# Altium integrated library TI Power Management DC-DC Controller (External Switch).IntLib: 349 symbols (part 24 of 28)
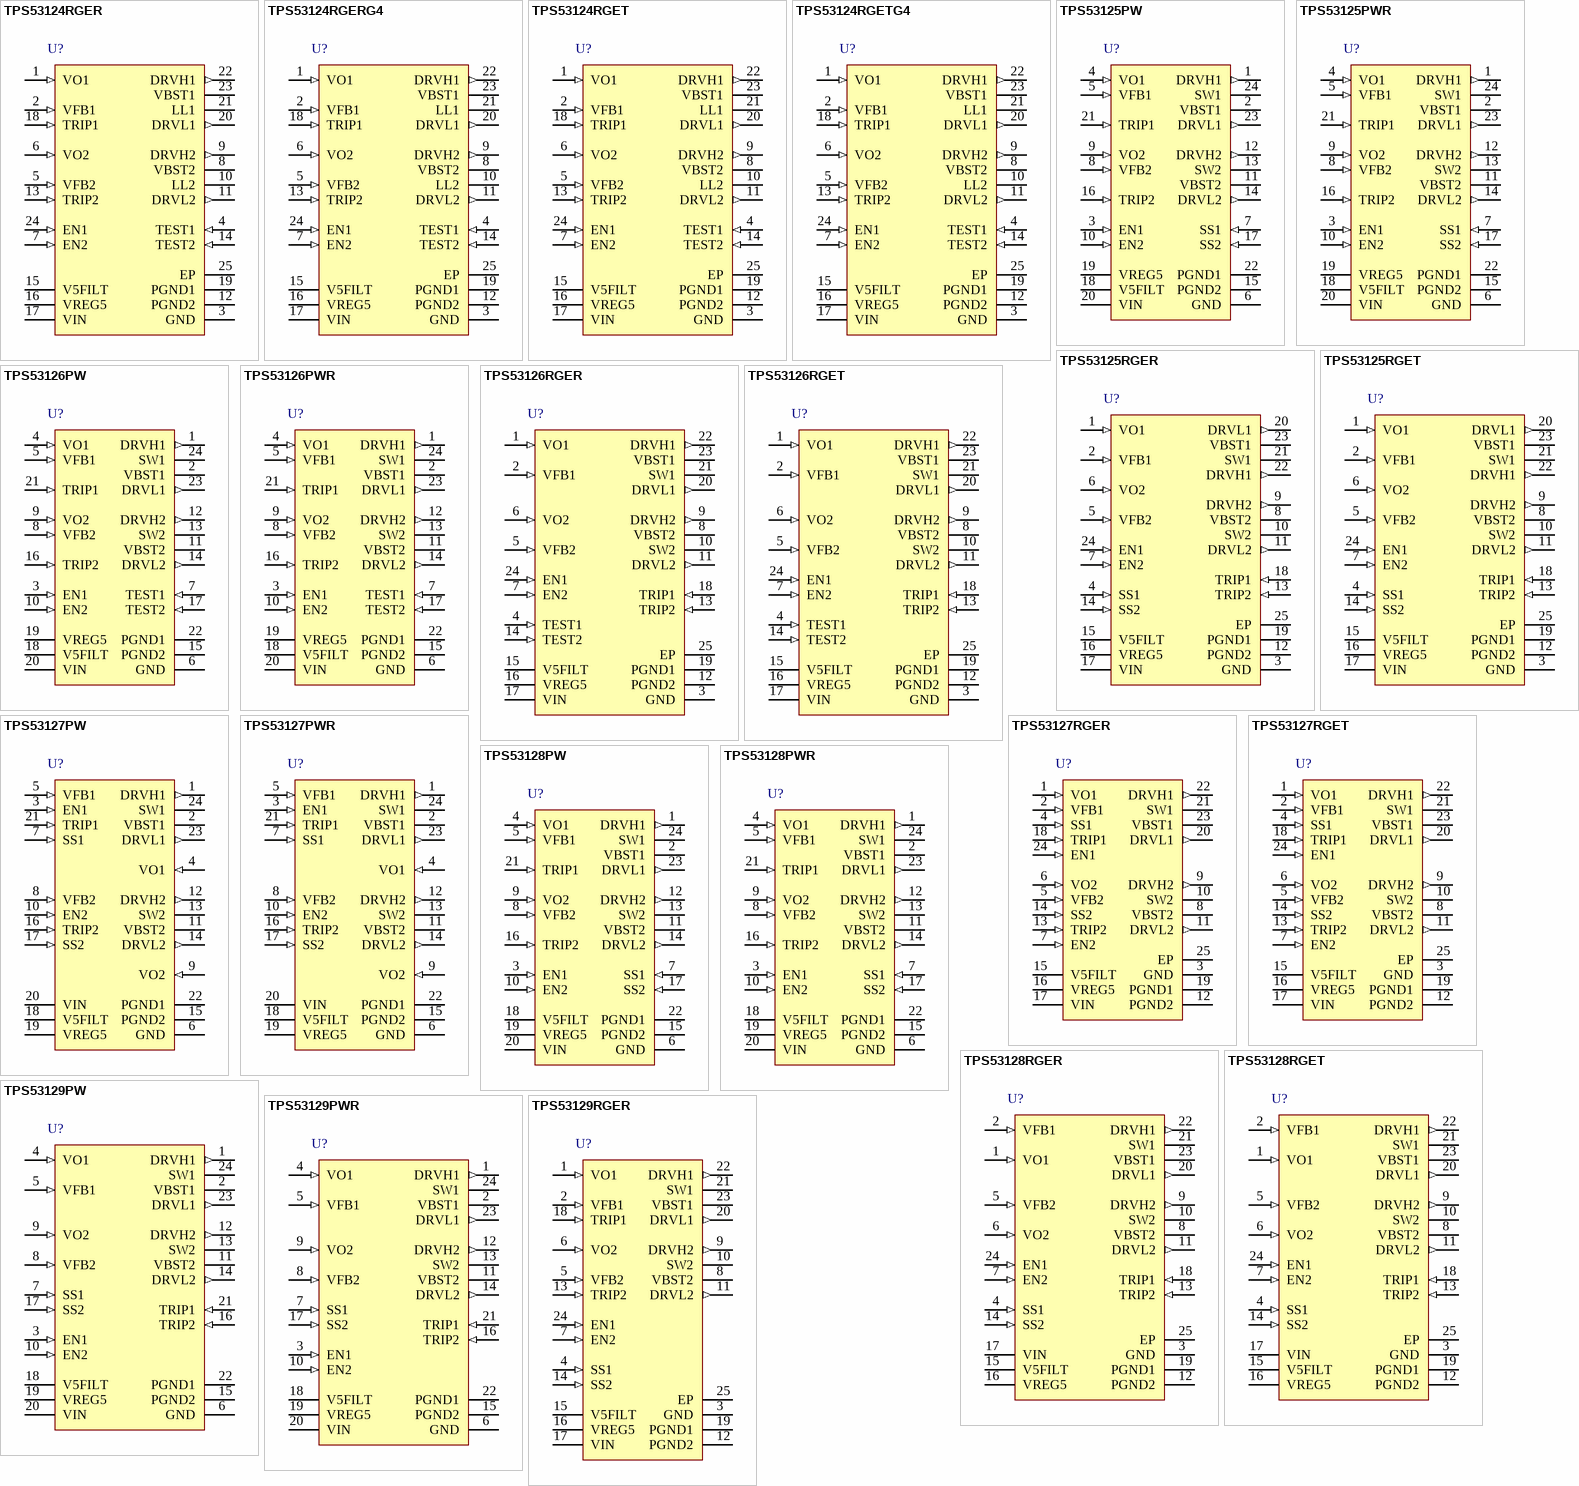
[diagram p37: symbols TPS53124RGER to TPS53129RGER]

## TPS53126PW
designator U?
Dual Synchronous Step-Down Controller for Low Voltage Power Rails, 350 kHz or 700 kHz Frequency, 89 % Duty Cycle, 4.5 to 24 V, -40 to 85 degC, 24-pin TSSOP (PW), Green (RoHS & no Sb/Br); Manufacturer: Texas Instruments; PartNumber: TPS53126PW; Duty Cycle(Max)(%): 89; Iout(Max)(A): 15; Regulated Outputs(#): 2; SubFamily: Multiple-Output Switching Controller; Switching Frequency(Max)(kHz): 350; Synchronous Rectification: TRUE; Topology: Buck, D-CAP 2 Mode"; Vin(Max)(V): 24; Vin(Min)(V): 4.5; Vout(Max)(V): 5.5; Vout(Min)(V): 0.76; DatasheetVersion: SLUS909; PackageVersion: revG, Feb-2011; PackageReference: PW24; PackageDescription: 24-Pin Thin Small Outline Package 0.65 mm Pitch; Supplier 1: Digi-Key; Supplier Part Number 1: TPS53126PW-ND; Supplier 2: Farnell; Supplier Part Number 2: 1735589; Supplier 3: Newark; Supplier Part Number 3: 11R8097; Supplier 4: Mouser; Supplier Part Number 4: 595-TPS53126PW; Eco-Plan: Green (RoHS & no Sb/Br); Iout2(A): 15; Vout2(Max)(V): 5.5; Vout2(Min)(V): 0.76; Mounting Technology: Surface Mount; Code_JEDEC: MO-153; ComponentLink1Description: Datasheet; ComponentLink1URL: http://www.ti.com/general/docs/lit/getliterature.tsp?genericPartNumber=TPS53126&fileType=pdf; ComponentLink2Description: Package Specification; ComponentLink2URL: http://www.ti.com/litv/pdf/mpds177g
footprint PW24_N (TSOP, 24-Leads, Body 7.8x4.4mm, Pitch 0.65mm, IPC Medium Density)
footprint PW24_L (TSOP, 24-Leads, Body 7.8x4.4mm, Pitch 0.65mm, IPC High Density)
footprint PW24_M (TSOP, 24-Leads, Body 7.8x4.4mm, Pitch 0.65mm, IPC Low Density)
pins: 1 DRVH1 (out) "High-side MOSFET gate driver outputs. SWx referenced drivers switch between SWx (OFF) and VBSTx (ON).", 2 VBST1 (power) "Supply input for high-side NFET driver (Boost Terminal). Bypass to SWx with a high-quality 0.1uF ceramic capacitor. An external schottky diode can be added if forward drop is critical to drive the high-side FET.", 3 EN1 (in) "Channel 1 and channel 2 high level enable pins.", 4 VO1 (in) "Output voltage inputs for on-time adjustment and output discharge. Connect directly to the output voltage.", 5 VFB1 (in) "D-CAP2 feedback inputs. Connect to output voltage with resistor divider.", 6 GND (power) "Signal ground pin. Connect to PGND1, PGND2 and system ground at a single point.", 7 TEST1 (in) "Test interface pin, not used during application. Connect directly to GND.", 8 VFB2 (in) "D-CAP2 feedback inputs. Connect to output voltage with resistor divider.", 9 VO2 (in) "Output voltage inputs for on-time adjustment and output discharge. Connect directly to the output voltage.", 10 EN2 (in) "Channel 1 and channel 2 high level enable pins.", 11 VBST2 (power) "Supply input for high-side NFET driver (Boost Terminal). Bypass to SWx with a high-quality 0.1uF ceramic capacitor. An external schottky diode can be added if forward drop is critical to drive the high-side FET.", 12 DRVH2 (out) "High-side MOSFET gate driver outputs. SWx referenced drivers switch between SWx (OFF) and VBSTx (ON).", 13 SW2 (power) "Switch node connections for both the high-side drivers and the current comparators.", 14 DRVL2 (out) "Low-side MOSFET gate driver outputs. PGND referenced drivers switch between PGNDx (OFF) and VREG5 (ON).", 15 PGND2 (power) "Power ground connections for both the low-side drivers and the current comparators. Connect PGND1, PGND2 and GND strongly together near the IC.", 16 TRIP2 (in) "Over current trip point programming pin. Connect to GND with a resistor to GND to set threshold for low-side RDS(on) current limit.", 17 TEST2 (in) "Frequency select pin. Connect to GND for 350kHz switching. Connect to V5FILT for 700kHz switching.", 18 V5FILT (power) "5V supply input for the entire control circuit except the MOSFET drivers. Bypass to GND with a minimum 1.0uF, high-quality ceramic capacitor. V5FILT is connected to VREG5 via an internal 10ohm resistor.", 19 VREG5 (power) "Output of 5V linear regulator and supply for MOSFET drivers. Bypass to GND with a minimum 4.7uF high-quality ceramic capacitor. VREG5 is connected to V5FILT via an internal 10ohm resistor.", 20 VIN (power) "Supply Input for 5V linear regulator.", 21 TRIP1 (in) "Over current trip point programming pin. Connect to GND with a resistor to GND to set threshold for low-side RDS(on) current limit.", 22 PGND1 (power) "Power ground connections for both the low-side drivers and the current comparators. Connect PGND1, PGND2 and GND strongly together near the IC.", 23 DRVL1 (out) "Low-side MOSFET gate driver outputs. PGND referenced drivers switch between PGNDx (OFF) and VREG5 (ON).", 24 SW1 (power) "Switch node connections for both the high-side drivers and the current comparators."

## TPS53126PWR
designator U?
Dual Synchronous Step-Down Controller for Low Voltage Power Rails, 350 kHz or 700 kHz Frequency, 89 % Duty Cycle, 4.5 to 24 V, -40 to 85 degC, 24-pin TSSOP (PW), Green (RoHS & no Sb/Br); Manufacturer: Texas Instruments; PartNumber: TPS53126PWR; Duty Cycle(Max)(%): 89; Iout(Max)(A): 15; Regulated Outputs(#): 2; SubFamily: Multiple-Output Switching Controller; Switching Frequency(Max)(kHz): 350; Synchronous Rectification: TRUE; Topology: Buck, D-CAP 2 Mode"; Vin(Max)(V): 24; Vin(Min)(V): 4.5; Vout(Max)(V): 5.5; Vout(Min)(V): 0.76; DatasheetVersion: SLUS909; PackageVersion: revG, Feb-2011; PackageReference: PW24; PackageDescription: 24-Pin Thin Small Outline Package 0.65 mm Pitch; Supplier 1: Digi-Key; Supplier Part Number 1: 296-24555-2-ND; Supplier 2: Digi-Key; Supplier Part Number 2: 296-24555-1-ND; Supplier 3: Digi-Key; Supplier Part Number 3: 296-24555-6-ND; Supplier 4: Mouser; Supplier Part Number 4: 595-TPS53126PWR; Eco-Plan: Green (RoHS & no Sb/Br); Iout2(A): 15; Vout2(Max)(V): 5.5; Vout2(Min)(V): 0.76; Mounting Technology: Surface Mount; Code_JEDEC: MO-153; ComponentLink1Description: Datasheet; ComponentLink1URL: http://www.ti.com/general/docs/lit/getliterature.tsp?genericPartNumber=TPS53126&fileType=pdf; ComponentLink2Description: Package Specification; ComponentLink2URL: http://www.ti.com/litv/pdf/mpds177g
footprint PW24_N (TSOP, 24-Leads, Body 7.8x4.4mm, Pitch 0.65mm, IPC Medium Density)
footprint PW24_L (TSOP, 24-Leads, Body 7.8x4.4mm, Pitch 0.65mm, IPC High Density)
footprint PW24_M (TSOP, 24-Leads, Body 7.8x4.4mm, Pitch 0.65mm, IPC Low Density)
pins: 1 DRVH1 (out) "High-side MOSFET gate driver outputs. SWx referenced drivers switch between SWx (OFF) and VBSTx (ON).", 2 VBST1 (power) "Supply input for high-side NFET driver (Boost Terminal). Bypass to SWx with a high-quality 0.1uF ceramic capacitor. An external schottky diode can be added if forward drop is critical to drive the high-side FET.", 3 EN1 (in) "Channel 1 and channel 2 high level enable pins.", 4 VO1 (in) "Output voltage inputs for on-time adjustment and output discharge. Connect directly to the output voltage.", 5 VFB1 (in) "D-CAP2 feedback inputs. Connect to output voltage with resistor divider.", 6 GND (power) "Signal ground pin. Connect to PGND1, PGND2 and system ground at a single point.", 7 TEST1 (in) "Test interface pin, not used during application. Connect directly to GND.", 8 VFB2 (in) "D-CAP2 feedback inputs. Connect to output voltage with resistor divider.", 9 VO2 (in) "Output voltage inputs for on-time adjustment and output discharge. Connect directly to the output voltage.", 10 EN2 (in) "Channel 1 and channel 2 high level enable pins.", 11 VBST2 (power) "Supply input for high-side NFET driver (Boost Terminal). Bypass to SWx with a high-quality 0.1uF ceramic capacitor. An external schottky diode can be added if forward drop is critical to drive the high-side FET.", 12 DRVH2 (out) "High-side MOSFET gate driver outputs. SWx referenced drivers switch between SWx (OFF) and VBSTx (ON).", 13 SW2 (power) "Switch node connections for both the high-side drivers and the current comparators.", 14 DRVL2 (out) "Low-side MOSFET gate driver outputs. PGND referenced drivers switch between PGNDx (OFF) and VREG5 (ON).", 15 PGND2 (power) "Power ground connections for both the low-side drivers and the current comparators. Connect PGND1, PGND2 and GND strongly together near the IC.", 16 TRIP2 (in) "Over current trip point programming pin. Connect to GND with a resistor to GND to set threshold for low-side RDS(on) current limit.", 17 TEST2 (in) "Frequency select pin. Connect to GND for 350kHz switching. Connect to V5FILT for 700kHz switching.", 18 V5FILT (power) "5V supply input for the entire control circuit except the MOSFET drivers. Bypass to GND with a minimum 1.0uF, high-quality ceramic capacitor. V5FILT is connected to VREG5 via an internal 10ohm resistor.", 19 VREG5 (power) "Output of 5V linear regulator and supply for MOSFET drivers. Bypass to GND with a minimum 4.7uF high-quality ceramic capacitor. VREG5 is connected to V5FILT via an internal 10ohm resistor.", 20 VIN (power) "Supply Input for 5V linear regulator.", 21 TRIP1 (in) "Over current trip point programming pin. Connect to GND with a resistor to GND to set threshold for low-side RDS(on) current limit.", 22 PGND1 (power) "Power ground connections for both the low-side drivers and the current comparators. Connect PGND1, PGND2 and GND strongly together near the IC.", 23 DRVL1 (out) "Low-side MOSFET gate driver outputs. PGND referenced drivers switch between PGNDx (OFF) and VREG5 (ON).", 24 SW1 (power) "Switch node connections for both the high-side drivers and the current comparators."

## TPS53126RGER
designator U?
Dual Synchronous Step-Down Controller for Low Voltage Power Rails, 350 kHz or 700 kHz Frequency, 89 % Duty Cycle, 4.5 to 24 V, -40 to 85 degC, 24-pin VQFN (RGE), Green (RoHS & no Sb/Br); Manufacturer: Texas Instruments; PartNumber: TPS53126RGER; Duty Cycle(Max)(%): 89; Iout(Max)(A): 15; Regulated Outputs(#): 2; SubFamily: Multiple-Output Switching Controller; Switching Frequency(Max)(kHz): 350; Synchronous Rectification: TRUE; Topology: Buck, D-CAP 2 Mode"; Vin(Max)(V): 24; Vin(Min)(V): 4.5; Vout(Max)(V): 5.5; Vout(Min)(V): 0.76; DatasheetVersion: SLUS909; PackageVersion: revG, Jul-2011; PackageReference: RGE24-2450X2450TP; PackageDescription: 24-Pin Plastic Quad Flatpack No-Lead, 4 x 4 mm Body, 0.5 mm Pitch; Supplier 1: Digi-Key; Supplier Part Number 1: 296-24556-2-ND; Supplier 2: Digi-Key; Supplier Part Number 2: 296-24556-1-ND; Supplier 3: Digi-Key; Supplier Part Number 3: 296-24556-6-ND; Supplier 4: Newark; Supplier Part Number 4: 25R0101; Supplier 5: Mouser; Supplier Part Number 5: 595-TPS53126RGER; Eco-Plan: Green (RoHS & no Sb/Br); Iout2(A): 15; Vout2(Max)(V): 5.5; Vout2(Min)(V): 0.76; Mounting Technology: Surface Mount; Code_JEDEC: MO-220; ComponentLink1Description: Datasheet; ComponentLink1URL: http://www.ti.com/general/docs/lit/getliterature.tsp?genericPartNumber=TPS53126&fileType=pdf; ComponentLink2Description: Package Specification; ComponentLink2URL: http://www.ti.com/litv/pdf/mpqf124f
footprint RGE24-2450X2450TP (QFN, 24-Leads, Body 4x4mm, Pitch 0.5mm, Thermal Pad 2.45x2.45mm, TI Recommended)
pins: 1 VO1 (in) "Output voltage inputs for on-time adjustment and output discharge. Connect directly to the output voltage.", 2 VFB1 (in) "D-CAP2 feedback inputs. Connect to output voltage with resistor divider.", 3 GND (power) "Signal ground pin. Connect to PGND1, PGND2 and system ground at a single point.", 4 TEST1 (in) "Frequency select pin. Connect to GND for 350kHz switching. Connect to V5FILT for 700kHz switching", 5 VFB2 (in) "D-CAP2 feedback inputs. Connect to output voltage with resistor divider.", 6 VO2 (in) "Output voltage inputs for on-time adjustment and output discharge. Connect directly to the output voltage.", 7 EN2 (in) "Channel 1 and channel 2 high level enable pins.", 8 VBST2 (power) "Supply input for high-side NFET driver (Boost Terminal). Bypass to SWx with a high-quality 0.1µF ceramic capacitor. An external schottky diode can be added if forward drop is critical to drive the high-side FET.", 9 DRVH2 (out) "High-side MOSFET gate driver outputs. SWx referenced drivers switch between SWx (OFF) and VBSTx (ON).", 10 SW2 (power) "Switch node connections for both the high-side drivers and the current comparators.", 11 DRVL2 (out) "Low-side MOSFET gate driver outputs. PGND referenced drivers switch between PGNDx (OFF) and VREG5 (ON).", 12 PGND2 (power) "Power ground connections for both the low-side drivers and the current comparators.", 13 TRIP2 (in) "Over current trip point programming pin. Connect to GND with a resistor to GND to set threshold for low-side RDS(on) current limit.", 14 TEST2 (in) "Frequency select pin. Connect to GND for 350kHz switching. Connect to V5FILT for 700kHz switching", 15 V5FILT (power) "5V supply input for the entire control circuit except the MOSFET drivers. Bypass to GND with a minimum 1.0µF, high-quality ceramic capacitor. V5FILT is connected to VREG5 via an internal 10ohm resistor.", 16 VREG5 (power) "Output of 5V linear regulator and supply for MOSFET drivers. Bypass to GND with aminimum 4.7µF high-quality ceramic capacitor. VREG5 is connected to V5FILT via an internal 10ohm resistor.", 17 VIN (power) "Supply Input for 5V linear regulator", 18 TRIP1 (in) "Over current trip point programming pin. Connect to GND with a resistor to GND to set threshold for low-side RDS(on) current limit.", 19 PGND1 (power) "Power ground connections for both the low-side drivers and the current comparators.", 20 DRVL1 (out) "Low-side MOSFET gate driver outputs. PGND referenced drivers switch between PGNDx (OFF) and VREG5 (ON).", 21 SW1 (power) "Switch node connections for both the high-side drivers and the current comparators.", 22 DRVH1 (out) "High-side MOSFET gate driver outputs. SWx referenced drivers switch between SWx (OFF) and VBSTx (ON).", 23 VBST1 (power) "Supply input for high-side NFET driver (Boost Terminal). Bypass to SWx with a high-quality 0.1µF ceramic capacitor. An external schottky diode can be added if forward drop is critical to drive the high-side FET.", 24 EN1 (in) "Channel 1 and channel 2 high level enable pins.", 25 EP (power)

## TPS53126RGET
designator U?
Dual Synchronous Step-Down Controller for Low Voltage Power Rails, 350 kHz or 700 kHz Frequency, 89 % Duty Cycle, 4.5 to 24 V, -40 to 85 degC, 24-pin VQFN (RGE), Green (RoHS & no Sb/Br); Manufacturer: Texas Instruments; PartNumber: TPS53126RGET; Duty Cycle(Max)(%): 89; Iout(Max)(A): 15; Regulated Outputs(#): 2; SubFamily: Multiple-Output Switching Controller; Switching Frequency(Max)(kHz): 350; Synchronous Rectification: TRUE; Topology: Buck, D-CAP 2 Mode"; Vin(Max)(V): 24; Vin(Min)(V): 4.5; Vout(Max)(V): 5.5; Vout(Min)(V): 0.76; DatasheetVersion: SLUS909; PackageVersion: revG, Jul-2011; PackageReference: RGE24-2450X2450TP; PackageDescription: 24-Pin Plastic Quad Flatpack No-Lead, 4 x 4 mm Body, 0.5 mm Pitch; Supplier 1: Digi-Key; Supplier Part Number 1: 296-24598-2-ND; Supplier 2: Digi-Key; Supplier Part Number 2: 296-24598-1-ND; Supplier 3: Digi-Key; Supplier Part Number 3: 296-24598-6-ND; Supplier 4: Newark; Supplier Part Number 4: 11R8098; Supplier 5: Mouser; Supplier Part Number 5: 595-TPS53126RGET; Eco-Plan: Green (RoHS & no Sb/Br); Iout2(A): 15; Vout2(Max)(V): 5.5; Vout2(Min)(V): 0.76; Mounting Technology: Surface Mount; Code_JEDEC: MO-220; ComponentLink1Description: Datasheet; ComponentLink1URL: http://www.ti.com/general/docs/lit/getliterature.tsp?genericPartNumber=TPS53126&fileType=pdf; ComponentLink2Description: Package Specification; ComponentLink2URL: http://www.ti.com/litv/pdf/mpqf124f
footprint RGE24-2450X2450TP (QFN, 24-Leads, Body 4x4mm, Pitch 0.5mm, Thermal Pad 2.45x2.45mm, TI Recommended)
pins: 1 VO1 (in) "Output voltage inputs for on-time adjustment and output discharge. Connect directly to the output voltage.", 2 VFB1 (in) "D-CAP2 feedback inputs. Connect to output voltage with resistor divider.", 3 GND (power) "Signal ground pin. Connect to PGND1, PGND2 and system ground at a single point.", 4 TEST1 (in) "Frequency select pin. Connect to GND for 350kHz switching. Connect to V5FILT for 700kHz switching", 5 VFB2 (in) "D-CAP2 feedback inputs. Connect to output voltage with resistor divider.", 6 VO2 (in) "Output voltage inputs for on-time adjustment and output discharge. Connect directly to the output voltage.", 7 EN2 (in) "Channel 1 and channel 2 high level enable pins.", 8 VBST2 (power) "Supply input for high-side NFET driver (Boost Terminal). Bypass to SWx with a high-quality 0.1µF ceramic capacitor. An external schottky diode can be added if forward drop is critical to drive the high-side FET.", 9 DRVH2 (out) "High-side MOSFET gate driver outputs. SWx referenced drivers switch between SWx (OFF) and VBSTx (ON).", 10 SW2 (power) "Switch node connections for both the high-side drivers and the current comparators.", 11 DRVL2 (out) "Low-side MOSFET gate driver outputs. PGND referenced drivers switch between PGNDx (OFF) and VREG5 (ON).", 12 PGND2 (power) "Power ground connections for both the low-side drivers and the current comparators.", 13 TRIP2 (in) "Over current trip point programming pin. Connect to GND with a resistor to GND to set threshold for low-side RDS(on) current limit.", 14 TEST2 (in) "Frequency select pin. Connect to GND for 350kHz switching. Connect to V5FILT for 700kHz switching", 15 V5FILT (power) "5V supply input for the entire control circuit except the MOSFET drivers. Bypass to GND with a minimum 1.0µF, high-quality ceramic capacitor. V5FILT is connected to VREG5 via an internal 10ohm resistor.", 16 VREG5 (power) "Output of 5V linear regulator and supply for MOSFET drivers. Bypass to GND with aminimum 4.7µF high-quality ceramic capacitor. VREG5 is connected to V5FILT via an internal 10ohm resistor.", 17 VIN (power) "Supply Input for 5V linear regulator", 18 TRIP1 (in) "Over current trip point programming pin. Connect to GND with a resistor to GND to set threshold for low-side RDS(on) current limit.", 19 PGND1 (power) "Power ground connections for both the low-side drivers and the current comparators.", 20 DRVL1 (out) "Low-side MOSFET gate driver outputs. PGND referenced drivers switch between PGNDx (OFF) and VREG5 (ON).", 21 SW1 (power) "Switch node connections for both the high-side drivers and the current comparators.", 22 DRVH1 (out) "High-side MOSFET gate driver outputs. SWx referenced drivers switch between SWx (OFF) and VBSTx (ON).", 23 VBST1 (power) "Supply input for high-side NFET driver (Boost Terminal). Bypass to SWx with a high-quality 0.1µF ceramic capacitor. An external schottky diode can be added if forward drop is critical to drive the high-side FET.", 24 EN1 (in) "Channel 1 and channel 2 high level enable pins.", 25 EP (power)

## TPS53127PW
designator U?
Dual Synchronous Step-Down Controller for Low-Voltage Power Rails, 89 % Duty Cycle, 4.5 to 24 V, -40 to 85 degC, 24-pin TSSOP (PW), Green (RoHS & no Sb/Br); Manufacturer: Texas Instruments; PartNumber: TPS53127PW; Duty Cycle(Max)(%): 89; Iout(Max)(A): 15; Regulated Outputs(#): 2; SubFamily: Multiple-Output Switching Controller; Switching Frequency(Max)(kHz): 700; Synchronous Rectification: TRUE; Topology: Buck, D-CAP 2 Mode"; Vin(Max)(V): 24; Vin(Min)(V): 4.5; Vout(Max)(V): 5.5; Vout(Min)(V): 0.76; DatasheetVersion: SLVSA93; PackageVersion: revG, Feb-2011; PackageReference: PW24; PackageDescription: 24-Pin Thin Small Outline Package 0.65 mm Pitch; Supplier 1: Digi-Key; Supplier Part Number 1: 296-34609-5-ND; Supplier 2: Newark; Supplier Part Number 2: 72R6640; Supplier 3: Mouser; Supplier Part Number 3: 595-TPS53127PW; Eco-Plan: Green (RoHS & no Sb/Br); Iout2(A): 15; Vout2(Max)(V): 5.5; Vout2(Min)(V): 0.76; Mounting Technology: Surface Mount; Code_JEDEC: MO-153; ComponentLink1Description: Datasheet; ComponentLink1URL: http://www.ti.com/general/docs/lit/getliterature.tsp?genericPartNumber=TPS53127&fileType=pdf; ComponentLink2Description: Package Specification; ComponentLink2URL: http://www.ti.com/litv/pdf/mpds177g
footprint PW24_N (TSOP, 24-Leads, Body 7.8x4.4mm, Pitch 0.65mm, IPC Medium Density)
footprint PW24_L (TSOP, 24-Leads, Body 7.8x4.4mm, Pitch 0.65mm, IPC High Density)
footprint PW24_M (TSOP, 24-Leads, Body 7.8x4.4mm, Pitch 0.65mm, IPC Low Density)
pins: 1 DRVH1 (out) "High-side N-Channel MOSFET gate driver outputs. SWx referenced drivers switch between SWx (OFF) and VBSTx (ON).", 2 VBST1 (power) "Supply input for high-side NFET driver. Bypass to SWx with a high-quality 0.1-uF ceramic capacitor. An external schottky diode can be added from VREG5 if forward drop is critical to drive the high-side FET.", 3 EN1 (in) "Enable. Pull High to enable SMPS.", 4 VO1 (in) "Output voltage inputs for on-time adjustment and output discharge. Connect directly to the output voltage.", 5 VFB1 (in) "D-CAP2 feedback inputs. Connect to output voltage with resistor divider.", 6 GND (power) "Signal ground pin. Connect to PGND1, PGND2 and system ground at a single point.", 7 SS1 (in) "Soft-start programming pin. Connect capacitor from SSx pin to GND to program soft-start time.", 8 VFB2 (in) "D-CAP2 feedback inputs. Connect to output voltage with resistor divider.", 9 VO2 (in) "Output voltage inputs for on-time adjustment and output discharge. Connect directly to the output voltage.", 10 EN2 (in) "Enable. Pull High to enable SMPS.", 11 VBST2 (power) "Supply input for high-side NFET driver. Bypass to SWx with a high-quality 0.1-uF ceramic capacitor. An external schottky diode can be added from VREG5 if forward drop is critical to drive the high-side FET.", 12 DRVH2 (out) "High-side N-Channel MOSFET gate driver outputs. SWx referenced drivers switch between SWx (OFF) and VBSTx (ON).", 13 SW2 (power) "Switch node connections for both the high-side drivers and the over current comparators.", 14 DRVL2 (out) "Low-side N-Channel MOSFET gate driver outputs. PGND referenced drivers switch between PGNDx (OFF) and VREG5 (ON).", 15 PGND2 (power) "Power ground connections for both the low-side drivers and the over current comparators. Connect PGND1, PGND2 and GND strongly together near the IC.", 16 TRIP2 (in) "Over current threshold programming pin. Connect to GND with a resistor to GND to set threshold for low-side RDS(ON) current limit.", 17 SS2 (in) "Soft-start programming pin. Connect capacitor from SSx pin to GND to program soft-start time.", 18 V5FILT (power) "5-V supply input for the entire control circuitry except the MOSFET drivers. Bypass to GND with a minimum high-quality 1.0-uF ceramic capacitor. V5FILT is connected to VREG5 via an internal 10-ohm resistor.", 19 VREG5 (power) "Output of 5-V linear regulator and supply for MOSFET drivers. Bypass to GND with a minimum high-quality 4.7-uF ceramic capacitor. VREG5 is connected to V5FILT via an internal 10-ohm resistor.", 20 VIN (power) "Supply Input for 5-V linear regulator. Bypass to GND with a minimum high-quality 0.1-uF ceramic capacitor.", 21 TRIP1 (in) "Over current threshold programming pin. Connect to GND with a resistor to GND to set threshold for low-side RDS(ON) current limit.", 22 PGND1 (power) "Power ground connections for both the low-side drivers and the over current comparators. Connect PGND1, PGND2 and GND strongly together near the IC.", 23 DRVL1 (out) "Low-side N-Channel MOSFET gate driver outputs. PGND referenced drivers switch between PGNDx (OFF) and VREG5 (ON).", 24 SW1 (power) "Switch node connections for both the high-side drivers and the over current comparators."

## TPS53127PWR
designator U?
Dual Synchronous Step-Down Controller for Low-Voltage Power Rails, 89 % Duty Cycle, 4.5 to 24 V, -40 to 85 degC, 24-pin TSSOP (PW), Green (RoHS & no Sb/Br); Manufacturer: Texas Instruments; PartNumber: TPS53127PWR; Duty Cycle(Max)(%): 89; Iout(Max)(A): 15; Regulated Outputs(#): 2; SubFamily: Multiple-Output Switching Controller; Switching Frequency(Max)(kHz): 700; Synchronous Rectification: TRUE; Topology: Buck, D-CAP 2 Mode"; Vin(Max)(V): 24; Vin(Min)(V): 4.5; Vout(Max)(V): 5.5; Vout(Min)(V): 0.76; DatasheetVersion: SLVSA93; PackageVersion: revG, Feb-2011; PackageReference: PW24; PackageDescription: 24-Pin Thin Small Outline Package 0.65 mm Pitch; Supplier 1: Digi-Key; Supplier Part Number 1: 296-27237-2-ND; Supplier 2: Digi-Key; Supplier Part Number 2: 296-27237-1-ND; Supplier 3: Digi-Key; Supplier Part Number 3: 296-27237-6-ND; Supplier 4: Newark; Supplier Part Number 4: 72R6641; Supplier 5: Mouser; Supplier Part Number 5: 595-TPS53127PWR; Eco-Plan: Green (RoHS & no Sb/Br); Iout2(A): 15; Vout2(Max)(V): 5.5; Vout2(Min)(V): 0.76; Mounting Technology: Surface Mount; Code_JEDEC: MO-153; ComponentLink1Description: Datasheet; ComponentLink1URL: http://www.ti.com/general/docs/lit/getliterature.tsp?genericPartNumber=TPS53127&fileType=pdf; ComponentLink2Description: Package Specification; ComponentLink2URL: http://www.ti.com/litv/pdf/mpds177g
footprint PW24_N (TSOP, 24-Leads, Body 7.8x4.4mm, Pitch 0.65mm, IPC Medium Density)
footprint PW24_L (TSOP, 24-Leads, Body 7.8x4.4mm, Pitch 0.65mm, IPC High Density)
footprint PW24_M (TSOP, 24-Leads, Body 7.8x4.4mm, Pitch 0.65mm, IPC Low Density)
pins: 1 DRVH1 (out) "High-side N-Channel MOSFET gate driver outputs. SWx referenced drivers switch between SWx (OFF) and VBSTx (ON).", 2 VBST1 (power) "Supply input for high-side NFET driver. Bypass to SWx with a high-quality 0.1-uF ceramic capacitor. An external schottky diode can be added from VREG5 if forward drop is critical to drive the high-side FET.", 3 EN1 (in) "Enable. Pull High to enable SMPS.", 4 VO1 (in) "Output voltage inputs for on-time adjustment and output discharge. Connect directly to the output voltage.", 5 VFB1 (in) "D-CAP2 feedback inputs. Connect to output voltage with resistor divider.", 6 GND (power) "Signal ground pin. Connect to PGND1, PGND2 and system ground at a single point.", 7 SS1 (in) "Soft-start programming pin. Connect capacitor from SSx pin to GND to program soft-start time.", 8 VFB2 (in) "D-CAP2 feedback inputs. Connect to output voltage with resistor divider.", 9 VO2 (in) "Output voltage inputs for on-time adjustment and output discharge. Connect directly to the output voltage.", 10 EN2 (in) "Enable. Pull High to enable SMPS.", 11 VBST2 (power) "Supply input for high-side NFET driver. Bypass to SWx with a high-quality 0.1-uF ceramic capacitor. An external schottky diode can be added from VREG5 if forward drop is critical to drive the high-side FET.", 12 DRVH2 (out) "High-side N-Channel MOSFET gate driver outputs. SWx referenced drivers switch between SWx (OFF) and VBSTx (ON).", 13 SW2 (power) "Switch node connections for both the high-side drivers and the over current comparators.", 14 DRVL2 (out) "Low-side N-Channel MOSFET gate driver outputs. PGND referenced drivers switch between PGNDx (OFF) and VREG5 (ON).", 15 PGND2 (power) "Power ground connections for both the low-side drivers and the over current comparators. Connect PGND1, PGND2 and GND strongly together near the IC.", 16 TRIP2 (in) "Over current threshold programming pin. Connect to GND with a resistor to GND to set threshold for low-side RDS(ON) current limit.", 17 SS2 (in) "Soft-start programming pin. Connect capacitor from SSx pin to GND to program soft-start time.", 18 V5FILT (power) "5-V supply input for the entire control circuitry except the MOSFET drivers. Bypass to GND with a minimum high-quality 1.0-uF ceramic capacitor. V5FILT is connected to VREG5 via an internal 10-ohm resistor.", 19 VREG5 (power) "Output of 5-V linear regulator and supply for MOSFET drivers. Bypass to GND with a minimum high-quality 4.7-uF ceramic capacitor. VREG5 is connected to V5FILT via an internal 10-ohm resistor.", 20 VIN (power) "Supply Input for 5-V linear regulator. Bypass to GND with a minimum high-quality 0.1-uF ceramic capacitor.", 21 TRIP1 (in) "Over current threshold programming pin. Connect to GND with a resistor to GND to set threshold for low-side RDS(ON) current limit.", 22 PGND1 (power) "Power ground connections for both the low-side drivers and the over current comparators. Connect PGND1, PGND2 and GND strongly together near the IC.", 23 DRVL1 (out) "Low-side N-Channel MOSFET gate driver outputs. PGND referenced drivers switch between PGNDx (OFF) and VREG5 (ON).", 24 SW1 (power) "Switch node connections for both the high-side drivers and the over current comparators."

## TPS53127RGER
designator U?
Dual Synchronous Step-Down Controller for Low-Voltage Power Rails, 89 % Duty Cycle, 4.5 to 24 V, -40 to 85 degC, 24-pin VQFN (RGE), Green (RoHS & no Sb/Br); Manufacturer: Texas Instruments; PartNumber: TPS53127RGER; Duty Cycle(Max)(%): 89; Iout(Max)(A): 15; Regulated Outputs(#): 2; SubFamily: Multiple-Output Switching Controller; Switching Frequency(Max)(kHz): 700; Synchronous Rectification: TRUE; Topology: Buck, D-CAP 2 Mode"; Vin(Max)(V): 24; Vin(Min)(V): 4.5; Vout(Max)(V): 5.5; Vout(Min)(V): 0.76; DatasheetVersion: SLVSA93; PackageVersion: revG, Jul-2011; PackageReference: RGE24-2450X2450TP; PackageDescription: 24-Pin Plastic Quad Flatpack No-Lead, 4 x 4 mm Body, 0.5 mm Pitch; Supplier 1: Digi-Key; Supplier Part Number 1: TPS53127RGER-ND; Supplier 2: Mouser; Supplier Part Number 2: 595-TPS53127RGER; Eco-Plan: Green (RoHS & no Sb/Br); Iout2(A): 15; Vout2(Max)(V): 5.5; Vout2(Min)(V): 0.76; Mounting Technology: Surface Mount; Code_JEDEC: MO-220; ComponentLink1Description: Datasheet; ComponentLink1URL: http://www.ti.com/general/docs/lit/getliterature.tsp?genericPartNumber=TPS53127&fileType=pdf; ComponentLink2Description: Package Specification; ComponentLink2URL: http://www.ti.com/litv/pdf/mpqf124f
footprint RGE24-2450X2450TP (QFN, 24-Leads, Body 4x4mm, Pitch 0.5mm, Thermal Pad 2.45x2.45mm, TI Recommended)
pins: 1 VO1 (in) "Output voltage inputs for on-time adjustment and output discharge. Connect directly to the output voltage.", 2 VFB1 (in) "D-CAP2 feedback inputs. Connect to output voltage with resistor divider.", 3 GND (power) "Signal ground pin. Connect to PGND1, PGND2 and system ground at a single point.", 4 SS1 (in) "Soft-start programming pin. Connect capacitor from SSx pin to GND to program soft-start time.", 5 VFB2 (in) "D-CAP2 feedback inputs. Connect to output voltage with resistor divider.", 6 VO2 (in) "Output voltage inputs for on-time adjustment and output discharge. Connect directly to the output voltage.", 7 EN2 (in) "Enable. Pull High to enable SMPS.", 8 VBST2 (power) "Supply input for high-side NFET driver. Bypass to SWx with a high-quality 0.1-uF ceramic capacitor. An external schottky diode can be added from VREG5 if forward drop is critical to drive the high-side FET.", 9 DRVH2 (out) "High-side N-Channel MOSFET gate driver outputs. SWx referenced drivers switch between SWx (OFF) and VBSTx (ON).", 10 SW2 (power) "Switch node connections for both the high-side drivers and the over current comparators.", 11 DRVL2 (out) "Low-side N-Channel MOSFET gate driver outputs. PGND referenced drivers switch between PGNDx (OFF) and VREG5 (ON).", 12 PGND2 (power) "Power ground connections for both the low-side drivers and the over current comparators. Connect PGND1, PGND2 and GND strongly together near the IC.", 13 TRIP2 (in) "Over current threshold programming pin. Connect to GND with a resistor to  GND to set threshold for low-side RDS(ON) current limit.", 14 SS2 (in) "Soft-start programming pin. Connect capacitor from SSx pin to GND to program soft-start time.", 15 V5FILT (power) "5-V supply input for the entire control circuitry except the MOSFET drivers. Bypass to GND with a minimum high-quality 1.0-uF ceramic capacitor. V5FILT is connected to VREG5 via an internal 10-ohm resistor.", 16 VREG5 (power) "Output of 5-V linear regulator and supply for MOSFET drivers. Bypass to GND  with a minimum high-quality 4.7-uF ceramic capacitor. VREG5 is connected to V5FILT via an internal 10-ohm resistor.", 17 VIN (power) "Supply Input for 5-V linear regulator. Bypass to GND with a minimum high-quality 0.1-uF ceramic capacitor.", 18 TRIP1 (in) "Over current threshold programming pin. Connect to GND with a resistor to  GND to set threshold for low-side RDS(ON) current limit.", 19 PGND1 (power) "Power ground connections for both the low-side drivers and the over current comparators. Connect PGND1, PGND2 and GND strongly together near the IC.", 20 DRVL1 (out) "Low-side N-Channel MOSFET gate driver outputs. PGND referenced drivers switch between PGNDx (OFF) and VREG5 (ON).", 21 SW1 (power) "Switch node connections for both the high-side drivers and the over current comparators.", 22 DRVH1 (out) "High-side N-Channel MOSFET gate driver outputs. SWx referenced drivers switch between SWx (OFF) and VBSTx (ON).", 23 VBST1 (power) "Supply input for high-side NFET driver. Bypass to SWx with a high-quality 0.1-uF ceramic capacitor. An external schottky diode can be added from VREG5 if forward drop is critical to drive the high-side FET.", 24 EN1 (in) "Enable. Pull High to enable SMPS.", 25 EP

## TPS53127RGET
designator U?
Dual Synchronous Step-Down Controller for Low-Voltage Power Rails, 89 % Duty Cycle, 4.5 to 24 V, -40 to 85 degC, 24-pin VQFN (RGE), Green (RoHS & no Sb/Br); Manufacturer: Texas Instruments; PartNumber: TPS53127RGET; Duty Cycle(Max)(%): 89; Iout(Max)(A): 15; Regulated Outputs(#): 2; SubFamily: Multiple-Output Switching Controller; Switching Frequency(Max)(kHz): 700; Synchronous Rectification: TRUE; Topology: Buck, D-CAP 2 Mode"; Vin(Max)(V): 24; Vin(Min)(V): 4.5; Vout(Max)(V): 5.5; Vout(Min)(V): 0.76; DatasheetVersion: SLVSA93; PackageVersion: revG, Jul-2011; PackageReference: RGE24-2450X2450TP; PackageDescription: 24-Pin Plastic Quad Flatpack No-Lead, 4 x 4 mm Body, 0.5 mm Pitch; Supplier 1: Digi-Key; Supplier Part Number 1: 296-27238-2-ND; Supplier 2: Digi-Key; Supplier Part Number 2: 296-27238-1-ND; Supplier 3: Digi-Key; Supplier Part Number 3: 296-27238-6-ND; Supplier 4: Mouser; Supplier Part Number 4: 595-TPS53127RGET; Eco-Plan: Green (RoHS & no Sb/Br); Iout2(A): 15; Vout2(Max)(V): 5.5; Vout2(Min)(V): 0.76; Mounting Technology: Surface Mount; Code_JEDEC: MO-220; ComponentLink1Description: Datasheet; ComponentLink1URL: http://www.ti.com/general/docs/lit/getliterature.tsp?genericPartNumber=TPS53127&fileType=pdf; ComponentLink2Description: Package Specification; ComponentLink2URL: http://www.ti.com/litv/pdf/mpqf124f
footprint RGE24-2450X2450TP (QFN, 24-Leads, Body 4x4mm, Pitch 0.5mm, Thermal Pad 2.45x2.45mm, TI Recommended)
pins: 1 VO1 (in) "Output voltage inputs for on-time adjustment and output discharge. Connect directly to the output voltage.", 2 VFB1 (in) "D-CAP2 feedback inputs. Connect to output voltage with resistor divider.", 3 GND (power) "Signal ground pin. Connect to PGND1, PGND2 and system ground at a single point.", 4 SS1 (in) "Soft-start programming pin. Connect capacitor from SSx pin to GND to program soft-start time.", 5 VFB2 (in) "D-CAP2 feedback inputs. Connect to output voltage with resistor divider.", 6 VO2 (in) "Output voltage inputs for on-time adjustment and output discharge. Connect directly to the output voltage.", 7 EN2 (in) "Enable. Pull High to enable SMPS.", 8 VBST2 (power) "Supply input for high-side NFET driver. Bypass to SWx with a high-quality 0.1-uF ceramic capacitor. An external schottky diode can be added from VREG5 if forward drop is critical to drive the high-side FET.", 9 DRVH2 (out) "High-side N-Channel MOSFET gate driver outputs. SWx referenced drivers switch between SWx (OFF) and VBSTx (ON).", 10 SW2 (power) "Switch node connections for both the high-side drivers and the over current comparators.", 11 DRVL2 (out) "Low-side N-Channel MOSFET gate driver outputs. PGND referenced drivers switch between PGNDx (OFF) and VREG5 (ON).", 12 PGND2 (power) "Power ground connections for both the low-side drivers and the over current comparators. Connect PGND1, PGND2 and GND strongly together near the IC.", 13 TRIP2 (in) "Over current threshold programming pin. Connect to GND with a resistor to  GND to set threshold for low-side RDS(ON) current limit.", 14 SS2 (in) "Soft-start programming pin. Connect capacitor from SSx pin to GND to program soft-start time.", 15 V5FILT (power) "5-V supply input for the entire control circuitry except the MOSFET drivers. Bypass to GND with a minimum high-quality 1.0-uF ceramic capacitor. V5FILT is connected to VREG5 via an internal 10-ohm resistor.", 16 VREG5 (power) "Output of 5-V linear regulator and supply for MOSFET drivers. Bypass to GND  with a minimum high-quality 4.7-uF ceramic capacitor. VREG5 is connected to V5FILT via an internal 10-ohm resistor.", 17 VIN (power) "Supply Input for 5-V linear regulator. Bypass to GND with a minimum high-quality 0.1-uF ceramic capacitor.", 18 TRIP1 (in) "Over current threshold programming pin. Connect to GND with a resistor to  GND to set threshold for low-side RDS(ON) current limit.", 19 PGND1 (power) "Power ground connections for both the low-side drivers and the over current comparators. Connect PGND1, PGND2 and GND strongly together near the IC.", 20 DRVL1 (out) "Low-side N-Channel MOSFET gate driver outputs. PGND referenced drivers switch between PGNDx (OFF) and VREG5 (ON).", 21 SW1 (power) "Switch node connections for both the high-side drivers and the over current comparators.", 22 DRVH1 (out) "High-side N-Channel MOSFET gate driver outputs. SWx referenced drivers switch between SWx (OFF) and VBSTx (ON).", 23 VBST1 (power) "Supply input for high-side NFET driver. Bypass to SWx with a high-quality 0.1-uF ceramic capacitor. An external schottky diode can be added from VREG5 if forward drop is critical to drive the high-side FET.", 24 EN1 (in) "Enable. Pull High to enable SMPS.", 25 EP

## TPS53128PW
designator U?
Dual Synchronous Step-Down Controller for Low Voltage Power Rails, 89 % Duty Cycle, 4.5 to 24 V, -40 to 85 degC, 24-pin TSSOP (PW), Green (RoHS & no Sb/Br); Manufacturer: Texas Instruments; PartNumber: TPS53128PW; Duty Cycle(Max)(%): 89; Iout(Max)(A): 15; Regulated Outputs(#): 2; SubFamily: Multiple-Output Switching Controller; Switching Frequency(Max)(kHz): 350; Synchronous Rectification: TRUE; Topology: Buck, D-CAP 2 Mode"; Vin(Max)(V): 24; Vin(Min)(V): 4.5; Vout(Max)(V): 5.5; Vout(Min)(V): 0.76; DatasheetVersion: SLVSAE4; PackageVersion: revG, Feb-2011; PackageReference: PW24; PackageDescription: 24-Pin Thin Small Outline Package 0.65 mm Pitch; Supplier 1: Digi-Key; Supplier Part Number 1: TPS53128PW-ND; Supplier 2: Mouser; Supplier Part Number 2: 595-TPS53128PW; Eco-Plan: Green (RoHS & no Sb/Br); Iout2(A): 15; Vout2(Max)(V): 5.5; Vout2(Min)(V): 0.76; Mounting Technology: Surface Mount; Code_JEDEC: MO-153; ComponentLink1Description: Datasheet; ComponentLink1URL: http://www.ti.com/general/docs/lit/getliterature.tsp?genericPartNumber=TPS53128&fileType=pdf; ComponentLink2Description: Package Specification; ComponentLink2URL: http://www.ti.com/litv/pdf/mpds177g
footprint PW24_N (TSOP, 24-Leads, Body 7.8x4.4mm, Pitch 0.65mm, IPC Medium Density)
footprint PW24_L (TSOP, 24-Leads, Body 7.8x4.4mm, Pitch 0.65mm, IPC High Density)
footprint PW24_M (TSOP, 24-Leads, Body 7.8x4.4mm, Pitch 0.65mm, IPC Low Density)
pins: 1 DRVH1 (out) "High-side N-Channel MOSFET gate driver outputs. SWx referenced drivers DRVH2 switch between SWx (OFF) and VBSTx (ON).", 2 VBST1 (power) "Supply input for high-side NFET driver. Bypass to SWx with a high-quality 0.1-uF ceramic capacitor. An external schottky diode can be added from  VREG5 if forward drop is critical to drive the high-side FET", 3 EN1 (in) "Enable. Pull High to enable SMPS", 4 VO1 (in) "Output voltage inputs for on-time adjustment and output discharge. Connect  directly to the output voltage", 5 VFB1 (in) "D-CAP2 feedback inputs. Connect to output voltage with resistor divider", 6 GND (power) "Signal ground pin. Connect to PGND1, PGND2 and system ground at a single point.", 7 SS1 (in) "Soft-start programming pin. Connect capacitor from SSx pin to GND to program soft-start time", 8 VFB2 (in) "D-CAP2 feedback inputs. Connect to output voltage with resistor divider", 9 VO2 (in) "Output voltage inputs for on-time adjustment and output discharge. Connect  directly to the output voltage", 10 EN2 (in) "Enable. Pull High to enable SMPS", 11 VBST2 (power) "Supply input for high-side NFET driver. Bypass to SWx with a high-quality 0.1-uF ceramic capacitor. An external schottky diode can be added from  VREG5 if forward drop is critical to drive the high-side FET", 12 DRVH2 (out) "High-side N-Channel MOSFET gate driver outputs. SWx referenced drivers DRVH2 switch between SWx (OFF) and VBSTx (ON).", 13 SW2 (power) "Switch node connections for both the high-side drivers and the over current comparators", 14 DRVL2 (out) "Low-side N-Channel MOSFET gate driver outputs. PGND referenced drivers  switch between PGNDx (OFF) and VREG5 (ON).", 15 PGND2 (power) "Power ground connections for both the low-side drivers and the over current comparators. Connect PGND1, PGND2 and GND strongly together near the IC", 16 TRIP2 (in) "Over current threshold programming pin. Connect to GND with a resistor to  GND to set threshold for low-side RDS(ON) current limit.", 17 SS2 (in) "Soft-start programming pin. Connect capacitor from SSx pin to GND to program soft-start time", 18 V5FILT (power) "5-V supply input for the entire control circuitry except the MOSFET drivers. Bypass to GND with a minimum high-quality 1.0-uF ceramic capacitor. V5FILT is connected to VREG5 via an internal 10-ohm resistor.", 19 VREG5 (power) "Output of 5-V linear regulator and supply for MOSFET drivers. Bypass to GND with a minimum high-quality 4.7-uF ceramic capacitor. VREG5 is connected toV5FILT via an internal 10-ohm resistor", 20 VIN (power) "Supply input for 5-V linear regulartor. Bypass to GND with a minimum high-quality 0.1-uF ceramic capacitor.", 21 TRIP1 (in) "Over current threshold programming pin. Connect to GND with a resistor to  GND to set threshold for low-side RDS(ON) current limit.", 22 PGND1 (power) "Power ground connections for both the low-side drivers and the over current comparators. Connect PGND1, PGND2 and GND strongly together near the IC", 23 DRVL1 (out) "Low-side N-Channel MOSFET gate driver outputs. PGND referenced drivers  switch between PGNDx (OFF) and VREG5 (ON).", 24 SW1 (power) "Switch node connections for both the high-side drivers and the over current comparators"

## TPS53128PWR
designator U?
Dual Synchronous Step-Down Controller for Low Voltage Power Rails, 89 % Duty Cycle, 4.5 to 24 V, -40 to 85 degC, 24-pin TSSOP (PW), Green (RoHS & no Sb/Br); Manufacturer: Texas Instruments; PartNumber: TPS53128PWR; Duty Cycle(Max)(%): 89; Iout(Max)(A): 15; Regulated Outputs(#): 2; SubFamily: Multiple-Output Switching Controller; Switching Frequency(Max)(kHz): 350; Synchronous Rectification: TRUE; Topology: Buck, D-CAP 2 Mode"; Vin(Max)(V): 24; Vin(Min)(V): 4.5; Vout(Max)(V): 5.5; Vout(Min)(V): 0.76; DatasheetVersion: SLVSAE4; PackageVersion: revG, Feb-2011; PackageReference: PW24; PackageDescription: 24-Pin Thin Small Outline Package 0.65 mm Pitch; Supplier 1: Digi-Key; Supplier Part Number 1: 296-27797-2-ND; Supplier 2: Digi-Key; Supplier Part Number 2: 296-27797-1-ND; Supplier 3: Digi-Key; Supplier Part Number 3: 296-27797-6-ND; Supplier 4: Newark; Supplier Part Number 4: 01T0815; Supplier 5: Mouser; Supplier Part Number 5: 595-TPS53128PWR; Eco-Plan: Green (RoHS & no Sb/Br); Iout2(A): 15; Vout2(Max)(V): 5.5; Vout2(Min)(V): 0.76; Mounting Technology: Surface Mount; Code_JEDEC: MO-153; ComponentLink1Description: Datasheet; ComponentLink1URL: http://www.ti.com/general/docs/lit/getliterature.tsp?genericPartNumber=TPS53128&fileType=pdf; ComponentLink2Description: Package Specification; ComponentLink2URL: http://www.ti.com/litv/pdf/mpds177g
footprint PW24_N (TSOP, 24-Leads, Body 7.8x4.4mm, Pitch 0.65mm, IPC Medium Density)
footprint PW24_L (TSOP, 24-Leads, Body 7.8x4.4mm, Pitch 0.65mm, IPC High Density)
footprint PW24_M (TSOP, 24-Leads, Body 7.8x4.4mm, Pitch 0.65mm, IPC Low Density)
pins: 1 DRVH1 (out) "High-side N-Channel MOSFET gate driver outputs. SWx referenced drivers DRVH2 switch between SWx (OFF) and VBSTx (ON).", 2 VBST1 (power) "Supply input for high-side NFET driver. Bypass to SWx with a high-quality 0.1-uF ceramic capacitor. An external schottky diode can be added from  VREG5 if forward drop is critical to drive the high-side FET", 3 EN1 (in) "Enable. Pull High to enable SMPS", 4 VO1 (in) "Output voltage inputs for on-time adjustment and output discharge. Connect  directly to the output voltage", 5 VFB1 (in) "D-CAP2 feedback inputs. Connect to output voltage with resistor divider", 6 GND (power) "Signal ground pin. Connect to PGND1, PGND2 and system ground at a single point.", 7 SS1 (in) "Soft-start programming pin. Connect capacitor from SSx pin to GND to program soft-start time", 8 VFB2 (in) "D-CAP2 feedback inputs. Connect to output voltage with resistor divider", 9 VO2 (in) "Output voltage inputs for on-time adjustment and output discharge. Connect  directly to the output voltage", 10 EN2 (in) "Enable. Pull High to enable SMPS", 11 VBST2 (power) "Supply input for high-side NFET driver. Bypass to SWx with a high-quality 0.1-uF ceramic capacitor. An external schottky diode can be added from  VREG5 if forward drop is critical to drive the high-side FET", 12 DRVH2 (out) "High-side N-Channel MOSFET gate driver outputs. SWx referenced drivers DRVH2 switch between SWx (OFF) and VBSTx (ON).", 13 SW2 (power) "Switch node connections for both the high-side drivers and the over current comparators", 14 DRVL2 (out) "Low-side N-Channel MOSFET gate driver outputs. PGND referenced drivers  switch between PGNDx (OFF) and VREG5 (ON).", 15 PGND2 (power) "Power ground connections for both the low-side drivers and the over current comparators. Connect PGND1, PGND2 and GND strongly together near the IC", 16 TRIP2 (in) "Over current threshold programming pin. Connect to GND with a resistor to  GND to set threshold for low-side RDS(ON) current limit.", 17 SS2 (in) "Soft-start programming pin. Connect capacitor from SSx pin to GND to program soft-start time", 18 V5FILT (power) "5-V supply input for the entire control circuitry except the MOSFET drivers. Bypass to GND with a minimum high-quality 1.0-uF ceramic capacitor. V5FILT is connected to VREG5 via an internal 10-ohm resistor.", 19 VREG5 (power) "Output of 5-V linear regulator and supply for MOSFET drivers. Bypass to GND with a minimum high-quality 4.7-uF ceramic capacitor. VREG5 is connected toV5FILT via an internal 10-ohm resistor", 20 VIN (power) "Supply input for 5-V linear regulartor. Bypass to GND with a minimum high-quality 0.1-uF ceramic capacitor.", 21 TRIP1 (in) "Over current threshold programming pin. Connect to GND with a resistor to  GND to set threshold for low-side RDS(ON) current limit.", 22 PGND1 (power) "Power ground connections for both the low-side drivers and the over current comparators. Connect PGND1, PGND2 and GND strongly together near the IC", 23 DRVL1 (out) "Low-side N-Channel MOSFET gate driver outputs. PGND referenced drivers  switch between PGNDx (OFF) and VREG5 (ON).", 24 SW1 (power) "Switch node connections for both the high-side drivers and the over current comparators"